# EAGLE library part AK_SC1602 (library mylib2)
秋月ＬＣＤキャラクタディスプレイモジュール（１６×２行）
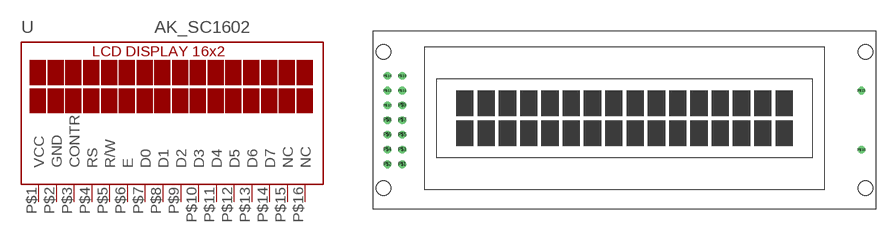
[diagram p11: symbol with the pads of AK_SC1602; footprint AK_SC1602]

Designator prefix -

## AK_SC1602  [AK_SC1602]
P$1  VCC  pwr
P$2  GND  pwr
P$3  CONTR  in
P$4  RS  in
P$5  R/W  in
P$6  E  in
P$7  D0  in
P$8  D1  in
P$9  D2  in
P$10  D3  in
P$11  D4  in
P$12  D5  in
P$13  D6  in
P$14  D7  in
P$15  NC  nc
P$16  NC  nc

## Footprint AK_SC1602 (pad centres in mm)
drill 0.8: P$1 -35.56,-7.62; P$2 -38.1,-7.62; P$3 -35.56,-5.08; P$4 -38.1,-5.08; P$5 -35.56,-2.54; P$6 -38.1,-2.54; P$7 -35.56,0; P$8 -38.1,0; P$9 -35.56,2.54; P$10 -38.1,2.54; P$11 -35.56,5.08; P$12 -38.1,5.08; P$13 -35.56,7.62; P$14 -38.1,7.62; P$15 43.18,5.08; P$16 43.18,-5.08
hole 2.5 at -38.77,-11.69
hole 2.5 at 43.85,-11.69
hole 2.5 at -38.77,11.69
hole 2.5 at 43.85,11.69